# Altium schematic symbol library gxti.SchLib: 1 symbol
Pins are listed as number, name and electrical type; pins without a type are passive.

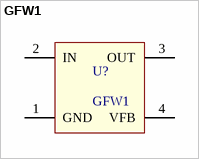
[diagram p0: symbol GFW1]

## GFW1
designator U?
pins: 1 GND, 2 IN, 3 OUT, 4 VFB